# Altium schematic symbol library CAP-SM-0402-X7R-47nF.Schlib: 1 symbol
Pins are listed as number, name and electrical type; pins without a type are passive.

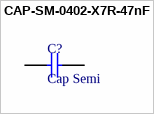
[diagram p0: symbol CAP-SM-0402-X7R-47nF]

## CAP-SM-0402-X7R-47nF
designator C?, comment Cap Semi
CAP SM 0402 X7R 47nF 10%
pins: 1, 2